# Altium footprint library QFN_Sq_40P_Side_L.PcbLib: 1 footprints
Each footprint in its own frame and in the unit in brackets; x right, y up, seen from the top. Pads: shape width x height; smd on the part's side, far side on the other; paste and mask are expansions set on the pad; w line width, h text height; cw(c..) or ccw(c..) is an arc to the next point about the centre after c.
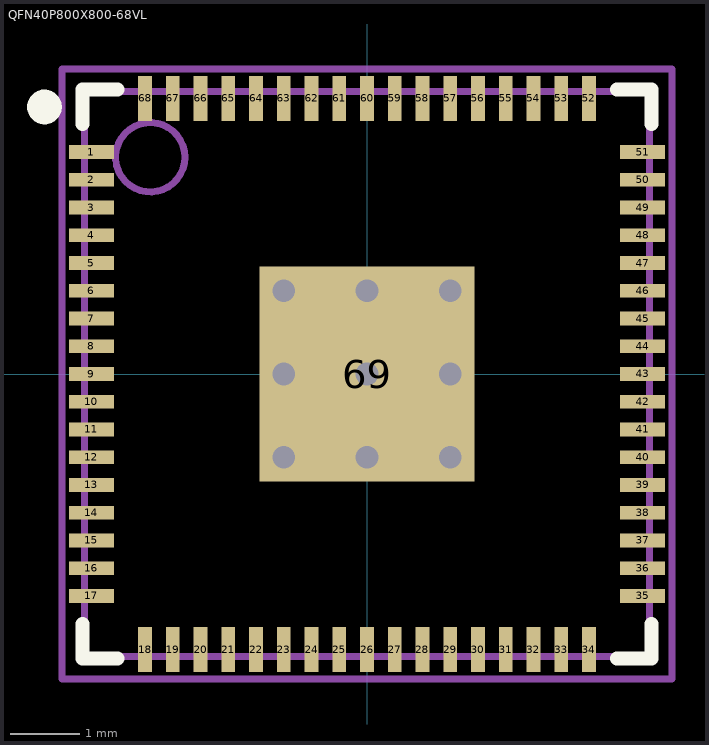
[diagram p0: the footprint, top view; thin cyan lines are the x and y axes]

## QFN40P800X800-68VL [mm] "QFN, 68-Leads, Body 8x8mm, Pitch 0.40mm, IPC High Density"
height 1
pads (69):
  rect 0.65x0.2 smd: 1(-3.975,3.2) 2(-3.975,2.8) 3(-3.975,2.4) 4(-3.975,2) 5(-3.975,1.6) 6(-3.975,1.2) 7(-3.975,0.8) 8(-3.975,0.4) 9(-3.975,0) 10(-3.975,-0.4) 11(-3.975,-0.8) 12(-3.975,-1.2) 13(-3.975,-1.6) 14(-3.975,-2) 15(-3.975,-2.4) 16(-3.975,-2.8) 17(-3.975,-3.2) 35(3.975,-3.2) 36(3.975,-2.8) 37(3.975,-2.4) 38(3.975,-2) 39(3.975,-1.6) 40(3.975,-1.2) 41(3.975,-0.8) 42(3.975,-0.4) 43(3.975,0) 44(3.975,0.4) 45(3.975,0.8) 46(3.975,1.2) 47(3.975,1.6) 48(3.975,2) 49(3.975,2.4) 50(3.975,2.8) 51(3.975,3.2)
  rect 0.2x0.65 smd: 18(-3.2,-3.975) 19(-2.8,-3.975) 20(-2.4,-3.975) 21(-2,-3.975) 22(-1.6,-3.975) 23(-1.2,-3.975) 24(-0.8,-3.975) 25(-0.4,-3.975) 26(0,-3.975) 27(0.4,-3.975) 28(0.8,-3.975) 29(1.2,-3.975) 30(1.6,-3.975) 31(2,-3.975) 32(2.4,-3.975) 33(2.8,-3.975) 34(3.2,-3.975) 52(3.2,3.975) 53(2.8,3.975) 54(2.4,3.975) 55(2,3.975) 56(1.6,3.975) 57(1.2,3.975) 58(0.8,3.975) 59(0.4,3.975) 60(0,3.975) 61(-0.4,3.975) 62(-0.8,3.975) 63(-1.2,3.975) 64(-1.6,3.975) 65(-2,3.975) 66(-2.4,3.975) 67(-2.8,3.975) 68(-3.2,3.975)
  rect 3.1x3.1 smd: 69(0,0)
via -1.2,1.2 diameter 0.66 hole 0.33
via 0,1.2 diameter 0.66 hole 0.33
via 1.2,1.2 diameter 0.66 hole 0.33
via -1.2,0 diameter 0.66 hole 0.33
via 0,0 diameter 0.66 hole 0.33
via 1.2,0 diameter 0.66 hole 0.33
via -1.2,-1.2 diameter 0.66 hole 0.33
via 0,-1.2 diameter 0.66 hole 0.33
via 1.2,-1.2 diameter 0.66 hole 0.33
Top Overlay:
  circle w0.25: c-4.65,3.85 r0.125
  lines w0.2: -4.1,-3.6 -4.1,-4.1 -3.6,-4.1 ; -4.1,3.6 -4.1,4.1 -3.6,4.1 ; 3.6,-4.1 4.1,-4.1 4.1,-3.6 ; 3.6,4.1 4.1,4.1 4.1,3.6
Mechanical 13:
  circle w0.1: c-3.125,3.125 r0.5
  lines w0.1: -4.075,-4.075 -4.075,4.075 4.075,4.075 4.075,-4.075 -4.075,-4.075
Mechanical 15:
  lines w0.1: -0.5,0 0.5,0 ; 0,-0.5 0,0.5 ; -4.4,-4.4 -4.4,4.4 4.4,4.4 4.4,-4.4 -4.4,-4.4
3D body: height 1, standoff 0, extent -4.075,-4.075 4.075,4.075